# Altium footprint library 0402(1005metric).PcbLib: 3 footprints
Each footprint in its own frame and in the unit in brackets; x right, y up, seen from the top. Pads: shape width x height; smd on the part's side, far side on the other; paste and mask are expansions set on the pad; w line width, h text height; cw(c..) or ccw(c..) is an arc to the next point about the centre after c.
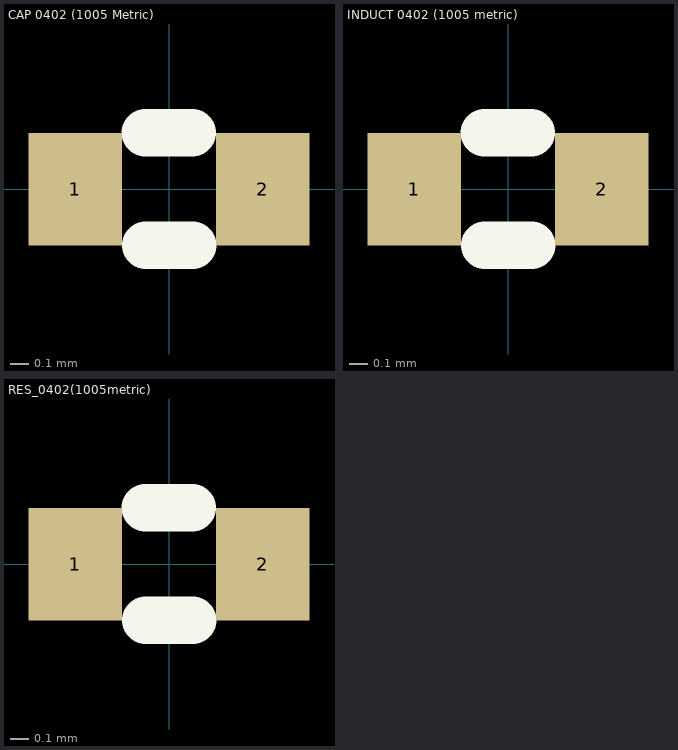
[diagram p0: the footprints below, top view; thin cyan lines are the x and y axes]

## CAP 0402 (1005 Metric) [mm]
pads (2):
  rect 0.5x0.6 smd: 1(-0.5,0) 2(0.5,0)
Top Overlay:
  lines w0.254: -0.125,-0.3 0.125,-0.3 ; -0.125,0.3 0.125,0.3
3D body: height 0.55, standoff 0, extent -0.501,-0.25 0.5,0.25

## INDUCT 0402 (1005 metric) [mm]
pads (2):
  rect 0.5x0.6 smd: 1(-0.5,0) 2(0.5,0)
Top Overlay:
  lines w0.254: -0.125,-0.3 0.125,-0.3 ; -0.125,0.3 0.125,0.3
3D body: height 0.55, standoff 0, extent -0.501,-0.25 0.5,0.25

## RES_0402(1005metric) [mm]
height 0.35
pads (2):
  rect 0.5x0.6 smd: 1(-0.5,0) 2(0.5,0)
Top Overlay:
  lines w0.254: -0.125,-0.3 0.125,-0.3 ; -0.125,0.3 0.125,0.3
3D body: height 0.55, standoff 0, extent -0.501,-0.25 0.5,0.25